# Altium schematic symbol library Crystals_Oscillators.SchLib: 6 symbols
Pins are listed as number, name and electrical type; pins without a type are passive.

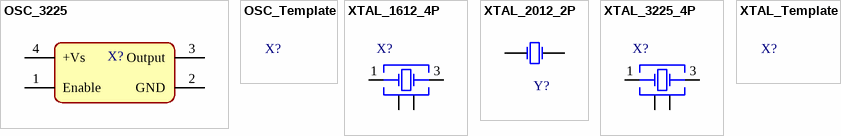
[diagram p0: symbols OSC_3225 to XTAL_Template]

## OSC_3225
designator X?, comment ?  (value not drawn)
SMD3225-4P Oscillators; Frequency: ?; JLCPCB Part: ?; LCSC Part: ?; Mfr. Part: ?
footprint OSC_3225
pins: 1 Enable, 2 GND, 3 Output, 4 +Vs

## OSC_Template
designator X?, comment ?  (value not drawn)
Where is the description?; Frequency: ?; JLCPCB Part: ?; LCSC Part: ?; Mfr. Part: ?

## XTAL_1612_4P
designator X?, comment ?  (value not drawn)
SMD1612-4P Crystals; Frequency: ?; JLCPCB Part: ?; LCSC Part: ?; Mfr. Part: ?
footprint XTAL_1612_4P (Quartz Crystal, size IQXC-26, body 1.6x1.2mm)
pins: 1 Crystal, 2 GND&Lid, 3 Crystal, 4 GND&Lid

## XTAL_2012_2P
designator Y?, comment ?  (value not drawn)
SMD2012-4P Crystals, / size; ComponentLink1Description: Website Link; ComponentLink1URL: https://www.we-online.com/redexpert/article/830050789?ad; ComponentLink2Description: Datasheet Link; ComponentLink2URL: https://www.we-online.com/redexpert/spec/830050789?ad; JLCPCB Part: ?; LCSC Part: ?; Frequency: ?; Mrf. Part: ?
footprint XTAL_2012_2P
pins: 1 OSC1, 2 OSC2

## XTAL_3225_4P
designator X?, comment ?  (value not drawn)
SMD3225-4P Crystals; Frequency: ?; JLCPCB Part: ?; LCSC Part: ?; Mfr. Part: ?
footprint XTAL_3225_4P (Quartz Crystal, size CFPX-180, body 3.4x2.7mm)
pins: 1 Crystal, 2 GND&Lid, 3 Crystal, 4 GND&Lid

## XTAL_Template
designator X?, comment ?  (value not drawn)
Where is the description?; Frequency: ?; JLCPCB Part: ?; LCSC Part: ?; Mfr. Part: ?